# Altium schematic symbol library BC846BLT1G.Schlib: 1 symbol
Pins are listed as number, name and electrical type; pins without a type are passive.

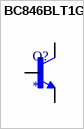
[diagram p0: symbol BC846BLT1G]

## BC846BLT1G
designator Q?
Bipolar (BJT) Transistor NPN 65 V 100 mA 100MHz 300 mW Surface Mount SOT-23-3 (TO-236)
pins: 1 B, 2 E, 3 C